# EAGLE library part W237-11P (library con-wago-508)
WAGO SREW CLAMP
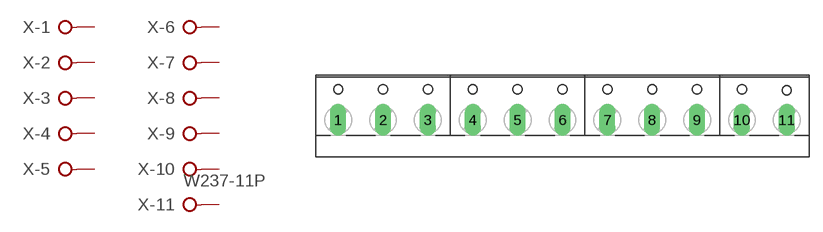
[diagram p6: symbol with the pads of W237-11P; footprint W237-11P]

Designator prefix X; gates -1=KL -2=KL -3=KL -4=KL -5=KL -6=KL -7=KL -8=KL -9=KL -10=KL -11=KL+V

## W237-11P (OC_FARNELL: unknown; OC_NEWARK: unknown)  [W237-11P]
1  -1:KL  pas
2  -2:KL  pas
3  -3:KL  pas
4  -4:KL  pas
5  -5:KL  pas
6  -6:KL  pas
7  -7:KL  pas
8  -8:KL  pas
9  -9:KL  pas
10  -10:KL  pas
11  -11:KL  pas

## Footprint W237-11P (pad centres in mm)
WAGO SREW CLAMP
drill 1.194 long: 1 -25.4,-0.635; 2 -20.32,-0.635; 3 -15.24,-0.635; 4 -10.16,-0.635; 5 -5.08,-0.635; 6 0,-0.635; 7 5.08,-0.635; 8 10.16,-0.635; 9 15.24,-0.635; 10 20.32,-0.635; 11 25.4,-0.635